# EAGLE library part PBQ79656PAPTQ1 (library PBQ79656PAPTQ1)
BQ7965x-Q1 Family of 12S, 14S, 16S Precision Automotive Battery Monitor, Balancer and Integrated Hardware Protector with up to SafeTITM-26262 ASIL-D Compliance Source: Datasheet <http://www.ti.com/lit/ds/symlink/bq79616-q1.pdf>
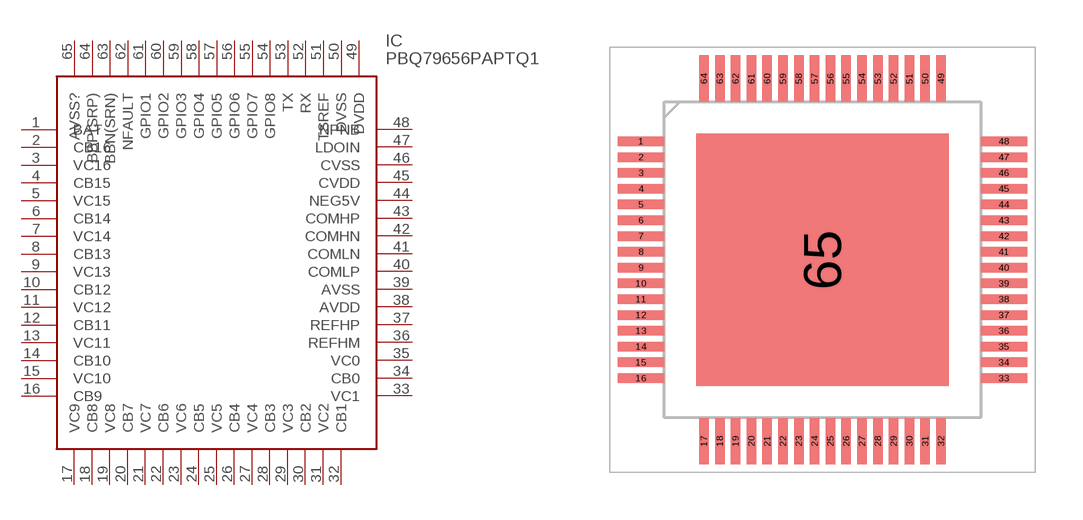
[diagram p0: symbol with the pads of QFP50P1200X1200X120-65N; footprint QFP50P1200X1200X120-65N]

Designator prefix IC

## PBQ79656PAPTQ1 (DESCRIPTION: BQ7965x-Q1 Family of 12S, 14S, 16S Precision Automotive Battery Monitor, Balancer and Integrated Hardware Protector with up to SafeTITM-26262 ASIL-D Compliance; HEIGHT: 1.2mm; MANUFACTURER_NAME: Texas Instruments; MANUFACTURER_PART_NUMBER: PBQ79656PAPTQ1)  [QFP50P1200X1200X120-65N]
1  BAT
2  CB16
3  VC16
4  CB15
5  VC15
6  CB14
7  VC14
8  CB13
9  VC13
10  CB12
11  VC12
12  CB11
13  VC11
14  CB10
15  VC10
16  CB9
17  VC9
18  CB8
19  VC8
20  CB7
21  VC7
22  CB6
23  VC6
24  CB5
25  VC5
26  CB4
27  VC4
28  CB3
29  VC3
30  CB2
31  VC2
32  CB1
33  VC1
34  CB0
35  VC0
36  REFHM
37  REFHP
38  AVDD
39  AVSS
40  COMLP
41  COMLN
42  COMHN
43  COMHP
44  NEG5V
45  CVDD
46  CVSS
47  LDOIN
48  NPNB
49  DVDD
50  DVSS
51  TSREF
52  RX
53  TX
54  GPIO8
55  GPIO7
56  GPIO6
57  GPIO5
58  GPIO4
59  GPIO3
60  GPIO2
61  GPIO1
62  NFAULT
63  BBN(SRN)
64  BBP(SRP)
65  AVSS?

## Footprint QFP50P1200X1200X120-65N (pad centres in mm)
PAP (S-PQFP-G64)_5
smd 1.475 x 0.3: 1 -5.738,3.75; 2 -5.738,3.25; 3 -5.738,2.75; 4 -5.738,2.25; 5 -5.738,1.75; 6 -5.738,1.25; 7 -5.738,0.75; 8 -5.738,0.25; 9 -5.738,-0.25; 10 -5.738,-0.75; 11 -5.738,-1.25; 12 -5.738,-1.75; 13 -5.738,-2.25; 14 -5.738,-2.75; 15 -5.738,-3.25; 16 -5.738,-3.75; 33 5.738,-3.75; 34 5.738,-3.25; 35 5.738,-2.75; 36 5.738,-2.25; 37 5.738,-1.75; 38 5.738,-1.25; 39 5.738,-0.75; 40 5.738,-0.25; 41 5.738,0.25; 42 5.738,0.75; 43 5.738,1.25; 44 5.738,1.75; 45 5.738,2.25; 46 5.738,2.75; 47 5.738,3.25; 48 5.738,3.75
smd 0.3 x 1.475: 17 -3.75,-5.738; 18 -3.25,-5.738; 19 -2.75,-5.738; 20 -2.25,-5.738; 21 -1.75,-5.738; 22 -1.25,-5.738; 23 -0.75,-5.738; 24 -0.25,-5.738; 25 0.25,-5.738; 26 0.75,-5.738; 27 1.25,-5.738; 28 1.75,-5.738; 29 2.25,-5.738; 30 2.75,-5.738; 31 3.25,-5.738; 32 3.75,-5.738; 49 3.75,5.738; 50 3.25,5.738; 51 2.75,5.738; 52 2.25,5.738; 53 1.75,5.738; 54 1.25,5.738; 55 0.75,5.738; 56 0.25,5.738; 57 -0.25,5.738; 58 -0.75,5.738; 59 -1.25,5.738; 60 -1.75,5.738; 61 -2.25,5.738; 62 -2.75,5.738; 63 -3.25,5.738; 64 -3.75,5.738
smd 8 x 8: 65 0,0